# Altium schematic symbol library 耳机外放.SchLib: 3 symbols
Pins are listed as number, name and electrical type; pins without a type are passive.

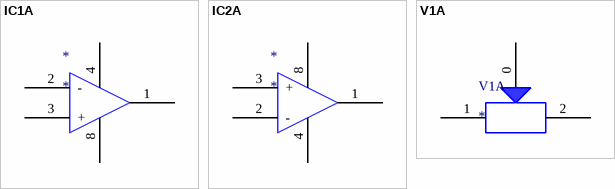
[diagram p0: symbols IC1A to V1A]

## IC1A
designator *
pins: 1, 2 -, 3 +, 4, 8

## IC2A
designator *
pins: 1, 2 -, 3 +, 4, 8

## V1A
designator V1A
pins: 0, 1, 2